# Altium schematic symbol library HoperRF.SchLib: 1 symbol
Pins are listed as number, name and electrical type; pins without a type are passive.

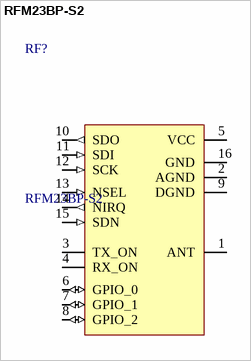
[diagram p0: symbol RFM23BP-S2]

## RFM23BP-S2
designator RF?
UHF 1W Transceiver
footprint RFM23BP-S2
pins: 1 N.C (hiz) hidden, 1 ANT, 2 AGND (power), 3 TX_ON, 4 N.C (hiz) hidden, 4 RX_ON, 5 VCC (power), 6 GPIO_0 (io), 7 GPIO_1 (io), 8 N.C (hiz) hidden, 8 GPIO_2 (io), 9 N.C (hiz) hidden, 9 DGND (power), 10 SDO (out), 11 SDI (in), 12 SCK (in), 13 NSEL (in), 14 N.C (hiz) hidden, 14 NIRQ (out), 15 SDN (in), 16 GND (power)